# Altium footprint library Light Sensor Prototype.PcbLib: 5 footprints
Each footprint in its own frame and in the unit in brackets; x right, y up, seen from the top. Pads: shape width x height; smd on the part's side, far side on the other; paste and mask are expansions set on the pad; w line width, h text height; cw(c..) or ccw(c..) is an arc to the next point about the centre after c.
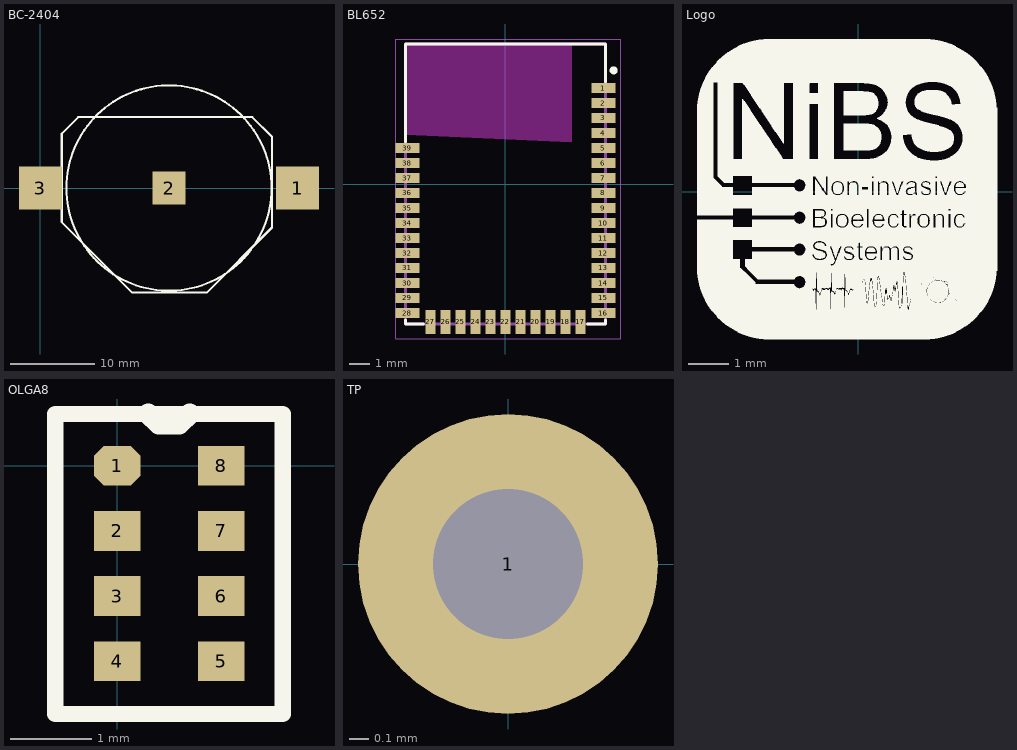
[diagram p0: the footprints below, top view; thin cyan lines are the x and y axes]

## BC-2404 [mm]
pads (3):
  rect 5.1x5.1 smd: 1(30.6,0) 3(0,0)
  rect 3.96x3.96 smd: 2(15.3,0)
Top Overlay:
  circle w0.254: c15.3,0 r12.215
  lines w0.254: 2.54,-4.064 10.922,-12.446 19.812,-12.446 27.559,-4.699 27.559,6.096 25.213,8.442 4.505,8.442 2.54,6.477 2.54,6.096 2.54,-4.064

## BL652 [mm]
pads (39):
  rect 1.2x0.48 smd paste+0 mask+0.152: 1(4.9,4.8) 2(4.9,4.05) 3(4.9,3.3) 4(4.9,2.55) 5(4.9,1.8) 6(4.9,1.05) 7(4.9,0.3) 8(4.9,-0.45) 9(4.9,-1.2) 10(4.9,-1.95) 11(4.9,-2.7) 12(4.9,-3.45) 13(4.9,-4.2) 14(4.9,-4.95) 15(4.9,-5.7) 16(4.9,-6.45) 28(-4.9,-6.45) 29(-4.9,-5.7) 30(-4.9,-4.95) 31(-4.9,-4.2) 32(-4.9,-3.45) 33(-4.9,-2.7) 34(-4.9,-1.95) 35(-4.9,-1.2) 36(-4.9,-0.45) 37(-4.9,0.3) 38(-4.9,1.05) 39(-4.9,1.8)
  rect 0.48x1.2 smd paste+0 mask+0.152: 17(3.75,-6.9) 18(3,-6.9) 19(2.25,-6.9) 20(1.5,-6.9) 21(0.75,-6.9) 22(0,-6.9) 23(-0.75,-6.9) 24(-1.5,-6.9) 25(-2.25,-6.9) 26(-3,-6.9) 27(-3.75,-6.9)
Top Overlay:
  circle w0.2: c5.409,5.686 r0.1
  lines w0.127: -5,-6.8 -5,-7 -4.1,-7 ; -5,2.1 -5,7 5,7 5,5.1 ; 4.1,-7 5,-7 5,-6.8
Keep-Out Layer:
  region: 3.302,2.101 -5.004,2.465 -5.004,7 3.302,7
  region: 3.302,2.092 -5.006,2.465 -5.006,7 3.302,7
Mechanical 13:
  lines w0.127: -5,-7 5,-7 5,7 -5,7 -5,-7
Mechanical 15:
  lines w0.05: -5.5,-7.75 5.75,-7.75 5.75,7.25 -5.5,7.25 -5.5,-7.75

## Logo [mm]
Top Overlay:
  drawing of 4378 lines, arcs and shapes, not listed

## OLGA8 [mm]
pads (8):
  oct 0.575x0.488 smd: 1(0,0)
  rect 0.575x0.488 smd: 2(0,-0.8) 3(0,-1.6) 4(0,-2.4) 5(1.276,-2.4) 6(1.276,-1.6) 7(1.276,-0.8) 8(1.276,0)
Top Overlay:
  lines w0.2: -0.762,-3.048 2.032,-3.048 2.032,0.635 -0.762,0.635 -0.762,-3.048
  lines w0.254: 0.381,0.635 0.508,0.508 0.762,0.508 0.889,0.635

## TP [mil]
pads (1):
  round 60 hole 30: 1(0,0)